# Altium schematic symbol library 30nH_inductor_0805_Components - 15.03.22 - 13.53.SchLib: 1 symbol
Pins are listed as number, name and electrical type; pins without a type are passive.

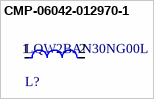
[diagram p0: symbol CMP-06042-012970-1]

## CMP-06042-012970-1
designator L?, comment LQW2BAN30NG00L
Wire Wound RF Inductor 30nH ±2% 2000mA 0.08Ω 0805 (2015); Self Resonant Frequency: 2GHz; DC Resistance (DCR): 80mR; Current Rating: 2A; Shielding: Unshielded; Core Material: Non-Magnetic; Test Frequency: 250MHz; Packaging: Cut Tape; Min Operating Temperature: -55°C; Tolerance: 2%; Mount: Surface Mount; Resistor Type: Wirewound; Case/Package: 0805; Inductance: 30nH; Max Operating Temperature: 125°C
footprint FP-LQW2BAN_00-MFG
pins: 1, 2